# EAGLE library part TLC3704IPWR (library U-TI-TLC3704)
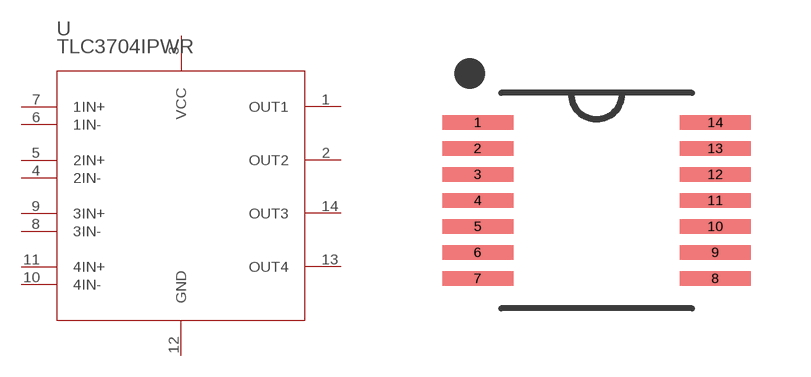
[diagram p0: symbol with the pads of 14-TSSOP; footprint 14-TSSOP]

Designator prefix U

## TLC3704IPWRPW14-M (DATASHEET_URL: http://www.ti.com/lit/gpn/LM2901-Q1; DESCRIPTION: Automotive Catalog Quad Differential Comparator; DPN: 296-18438-1-ND; FAMILY_NAME: COMPARATOR; GENERIC_PART_NUMBER: LM2901-Q1; INDUSTRY_STD_PKG_TYPE: TSSOP; MANUFACTURER: Texas Instruments; MPN: LM2901QPWRQ1; PACKAGE_DESIGNATOR: PW; PIN_COUNT: 14; VENDOR: Texas Instruments)  [14-TSSOP]
1  OUT1  out
2  OUT2  out
3  VCC  pwr
4  2IN-  in
5  2IN+  in
6  1IN-  in
7  1IN+  in
8  3IN-  in
9  3IN+  in
10  4IN-  in
11  4IN+  in
12  GND  pwr
13  OUT4  out
14  OUT3  out

## Footprint 14-TSSOP (pad centres in mm)
smd 1.778 x 0.356: 1 -2.972,1.95; 2 -2.972,1.3; 3 -2.972,0.65; 4 -2.972,0; 5 -2.972,-0.65; 6 -2.972,-1.3; 7 -2.972,-1.95; 8 2.972,-1.95; 9 2.972,-1.3; 10 2.972,-0.65; 11 2.972,0; 12 2.972,0.65; 13 2.972,1.3; 14 2.972,1.95